# EAGLE library part XRT7295ATIW-F (library Exar_By_element14_Batch_1)
Integrated Line Receiver
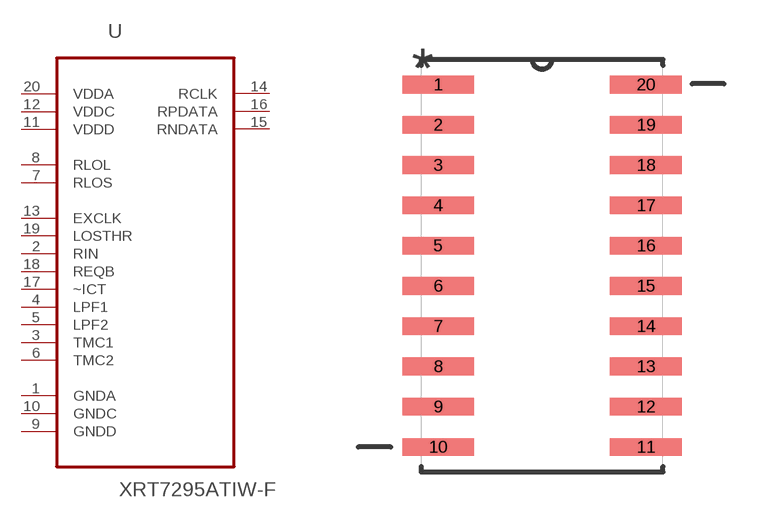
[diagram p107: symbol with the pads of SOJ127P866X508-20N; footprint SOJ127P866X508-20N]

Designator prefix U

## XRT7295ATIW-F (MPN: XRT7295ATIW-F; OC_FARNELL: 1798681; OC_NEWARK: 24R1756; PACKAGE: SOJ-20; SUPPLIER: EXAR)  [SOJ127P866X508-20N]
1  GNDA  pas
2  RIN  in
3  TMC1  in
4  LPF1  in
5  LPF2  in
6  TMC2  in
7  RLOS  in
8  RLOL  in
9  GNDD  pas
10  GNDC  pas
11  VDDD  pwr
12  VDDC  pwr
13  EXCLK  in
14  RCLK  out
15  RNDATA  out
16  RPDATA  out
17  ~ICT  in
18  REQB  in
19  LOSTHR  in
20  VDDA  pwr

## Footprint SOJ127P866X508-20N (pad centres in mm)
smd 2.261 x 0.559: 1 -3.277,5.715; 2 -3.277,4.445; 3 -3.277,3.175; 4 -3.277,1.905; 5 -3.277,0.635; 6 -3.277,-0.635; 7 -3.277,-1.905; 8 -3.277,-3.175; 9 -3.277,-4.445; 10 -3.277,-5.715; 11 3.277,-5.715; 12 3.277,-4.445; 13 3.277,-3.175; 14 3.277,-1.905; 15 3.277,-0.635; 16 3.277,0.635; 17 3.277,1.905; 18 3.277,3.175; 19 3.277,4.445; 20 3.277,5.715